# Altium footprint library 20-TSSOP.PcbLib: 1 footprints
Each footprint in its own frame and in the unit in brackets; x right, y up, seen from the top. Pads: shape width x height; smd on the part's side, far side on the other; paste and mask are expansions set on the pad; w line width, h text height; cw(c..) or ccw(c..) is an arc to the next point about the centre after c.
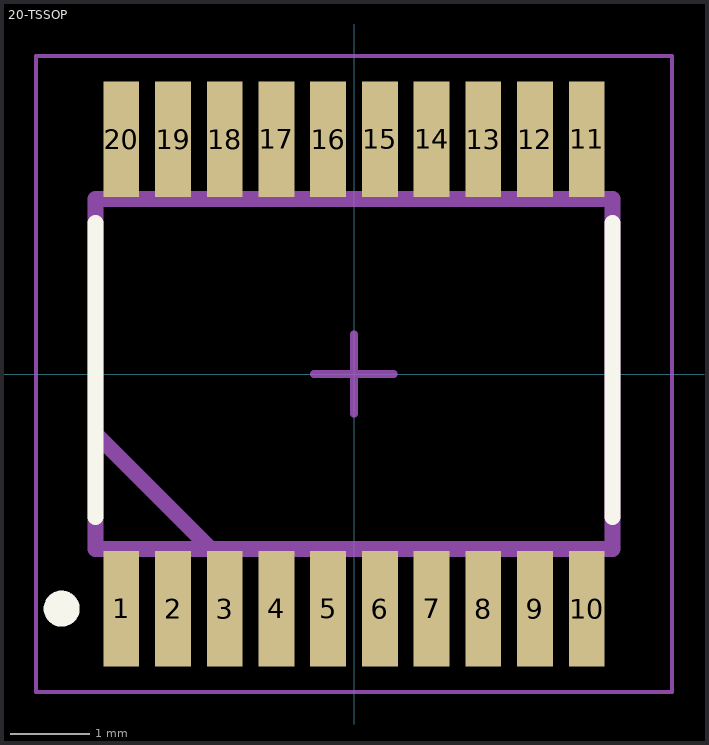
[diagram p0: the footprint, top view; thin cyan lines are the x and y axes]

## 20-TSSOP [mm]
pads (20):
  rect 0.45x1.45 smd mask+0.075: 1(-2.925,-2.95) 2(-2.275,-2.95) 3(-1.625,-2.95) 4(-0.975,-2.95) 5(-0.325,-2.95) 6(0.325,-2.95) 7(0.975,-2.95) 8(1.625,-2.95) 9(2.275,-2.95) 10(2.925,-2.95) 11(2.925,2.95) 12(2.275,2.95) 13(1.625,2.95) 14(0.975,2.95) 15(0.325,2.95) 16(-0.325,2.95) 17(-0.975,2.95) 18(-1.625,2.95) 19(-2.275,2.95) 20(-2.925,2.95)
Top Overlay:
  circle w0.254: c-3.675,-2.95 r0.1
  lines w0.2: -3.25,-1.8 -3.25,1.9 ; 3.25,-1.8 3.25,1.9
Mechanical 1:
  lines w0.2: -1.8,-2.2 -3.25,-0.75 ; -3.25,-0.75 -3.25,-0.75 ; -3.25,-0.75 -3.25,-0.75 ; -3.25,-2.2 -3.25,2.2 3.25,2.2 3.25,-2.2 -3.25,-2.2
  text ".Designator" at -3.374,-0.558 h0.65
Mechanical 2:
  lines w0.05: -4,-4 4,-4 4,4 -4,4 -4,-4
  lines w0.1: -0.5,0 0.5,0 ; 0,-0.5 0,0.5
3D body "TSSOP20_ST_MCH.step": height 1.2, standoff 0, extent -3.302,-3.2 3.302,3.2